# EAGLE library part SEP_TCMD4000 (library custom)
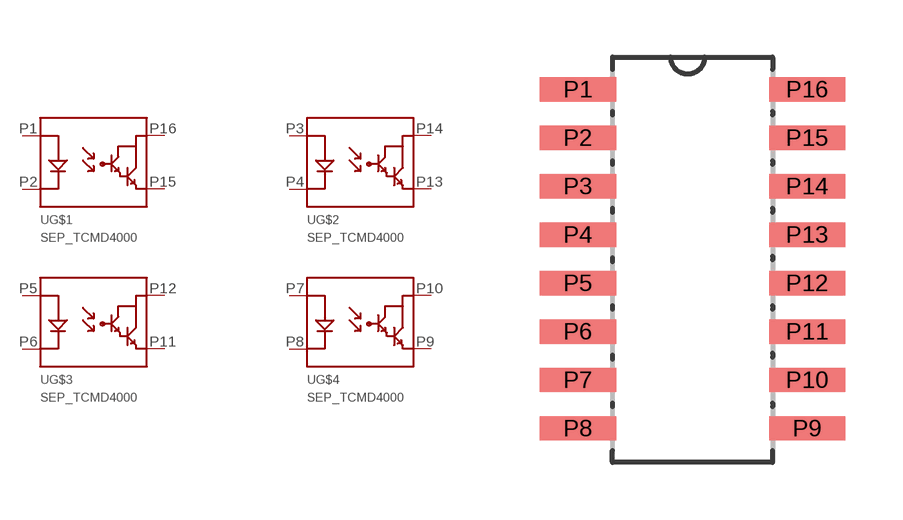
[diagram p8: symbol with the pads of SOIC16; footprint SOIC16]

Designator prefix -; gates G$1=TCMD1000 G$2=TCMD1000 G$3=TCMD1000 G$4=TCMD1000

## SEP_TCMD4000  [SOIC16]
P1  G$1:A
P2  G$1:K
P3  G$2:A
P4  G$2:K
P5  G$3:A
P6  G$3:K
P7  G$4:A
P8  G$4:K
P9  G$4:E
P10  G$4:C
P11  G$3:E
P12  G$3:C
P13  G$2:E
P14  G$2:C
P15  G$1:E
P16  G$1:C

## Footprint SOIC16 (pad centres in mm)
smd 2 x 0.635: P1 -2.85,4.57; P2 -2.85,3.3; P3 -2.85,2.03; P4 -2.85,0.76; P5 -2.85,-0.51; P6 -2.85,-1.78; P7 -2.85,-3.05; P8 -2.85,-4.32; P9 3.157,-4.32; P10 3.157,-3.05; P11 3.157,-1.78; P12 3.157,-0.51; P13 3.157,0.76; P14 3.157,2.03; P15 3.157,3.3; P16 3.16,4.57